# Altium footprint library PCB_template_A4.PcbLib: 19 footprints (part 2 of 2)
Each footprint in its own frame and in the unit in brackets; x right, y up, seen from the top. Pads: shape width x height; smd on the part's side, far side on the other; paste and mask are expansions set on the pad; w line width, h text height; cw(c..) or ccw(c..) is an arc to the next point about the centre after c.
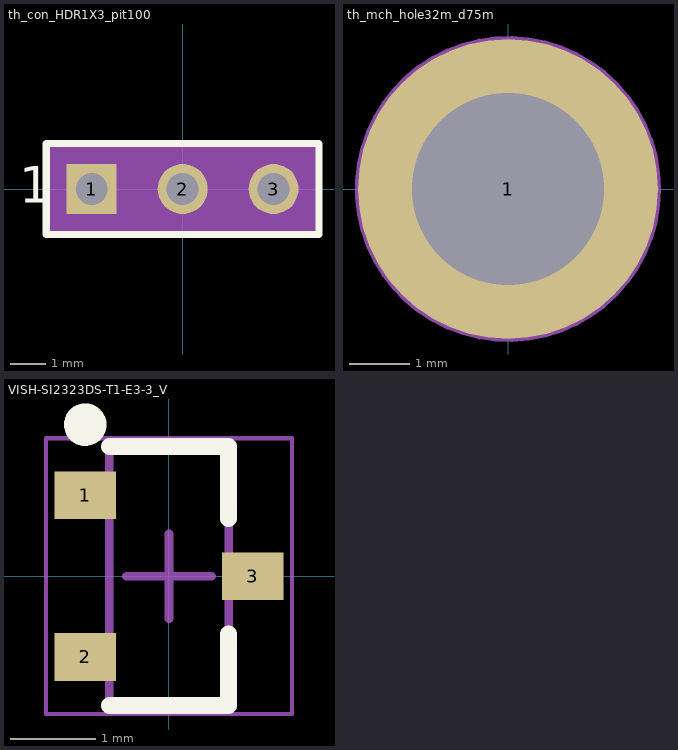
[diagram p1: the footprints below, top view; thin cyan lines are the x and y axes]

## th_con_HDR1X3_pit100 [mil] "Connector; Header; 3 Position"
pads (3):
  rect 55x55 hole 35: 1(-100,0)
  round 55 hole 35: 2(0,0) 3(100,0)
Top Overlay:
  lines w7.87: -150,-50 -150,50 150,50 150,-50 -150,-50
  text "1" at -180,-15 h40
Top Assembly:
  lines w5: -150,-50 150,-50 ; -150,-50 150,-50 ; -150,-50 -150,50 150,50 150,-50
  text ".Designator" at -155,60 h40
  text "1" at -175,-15 h40
Top Coating:
  rectangle: -150,-50 150,50
3D body: height 100, standoff 0, extent -150,-50 -50,50
3D body: height 405.51, standoff -141.73, extent -114.94,-14.97 -85.05,14.97
3D body: height 100, standoff 0, extent -50,-50 50,50
3D body: height 405.51, standoff -141.73, extent -14.94,-14.97 14.95,14.97
3D body: height 100, standoff 0, extent 50,-50 150,50
3D body: height 405.51, standoff -141.73, extent 85.06,-14.97 114.95,14.97

## th_mch_hole32m_d75m [mm] "DIN 125 A-M3, average 7 mm"
height 0.102
pads (1):
  round 5 / inner round 3.81 / far side round 5 hole 3.2: 1(0,0)
Top Assembly:
  circle w0.102: c0,0 r2.5
  circle w0.102: c0,0 r1.675

## VISH-SI2323DS-T1-E3-3_V [mm] "SOT23, 3-Leads, Body 3.04x1.4mm, Pitch 0.95mm"
height 1.12
pads (3):
  rect 0.724x0.559 smd: 1(-0.984,0.95) 2(-0.984,-0.95) 3(0.985,0)
Top Overlay:
  circle w0.25: c-0.984,1.78 r0.125
  lines w0.2: -0.7,-1.52 0.7,-1.52 0.7,-0.679 ; -0.7,1.52 0.7,1.52 0.7,0.68
Top Assembly:
  lines w0.1: -0.7,-1.52 -0.7,1.52 0.7,1.52 0.7,-1.52 -0.7,-1.52
Mechanical 15:
  lines w0.05: -1.446,-1.62 -1.446,1.62 1.446,1.62 1.446,-1.62 -1.446,-1.62
  lines w0.1: -0.5,0 0.5,0 ; 0,-0.5 0,0.5
3D body: height 1.12, standoff 0.01, extent -0.7,-1.52 0.7,1.52